# Altium schematic symbol library prekidač.SchLib: 1 symbol
Pins are listed as number, name and electrical type; pins without a type are passive.

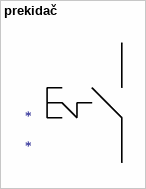
[diagram p0: symbol prekidač]

## prekidač
designator *
pins: ?1, ?2